# Altium integrated library ON Semi Signal Management Sensor Interfaces.IntLib: 18 symbols
Pins are listed as number, name and electrical type; pins without a type are passive.

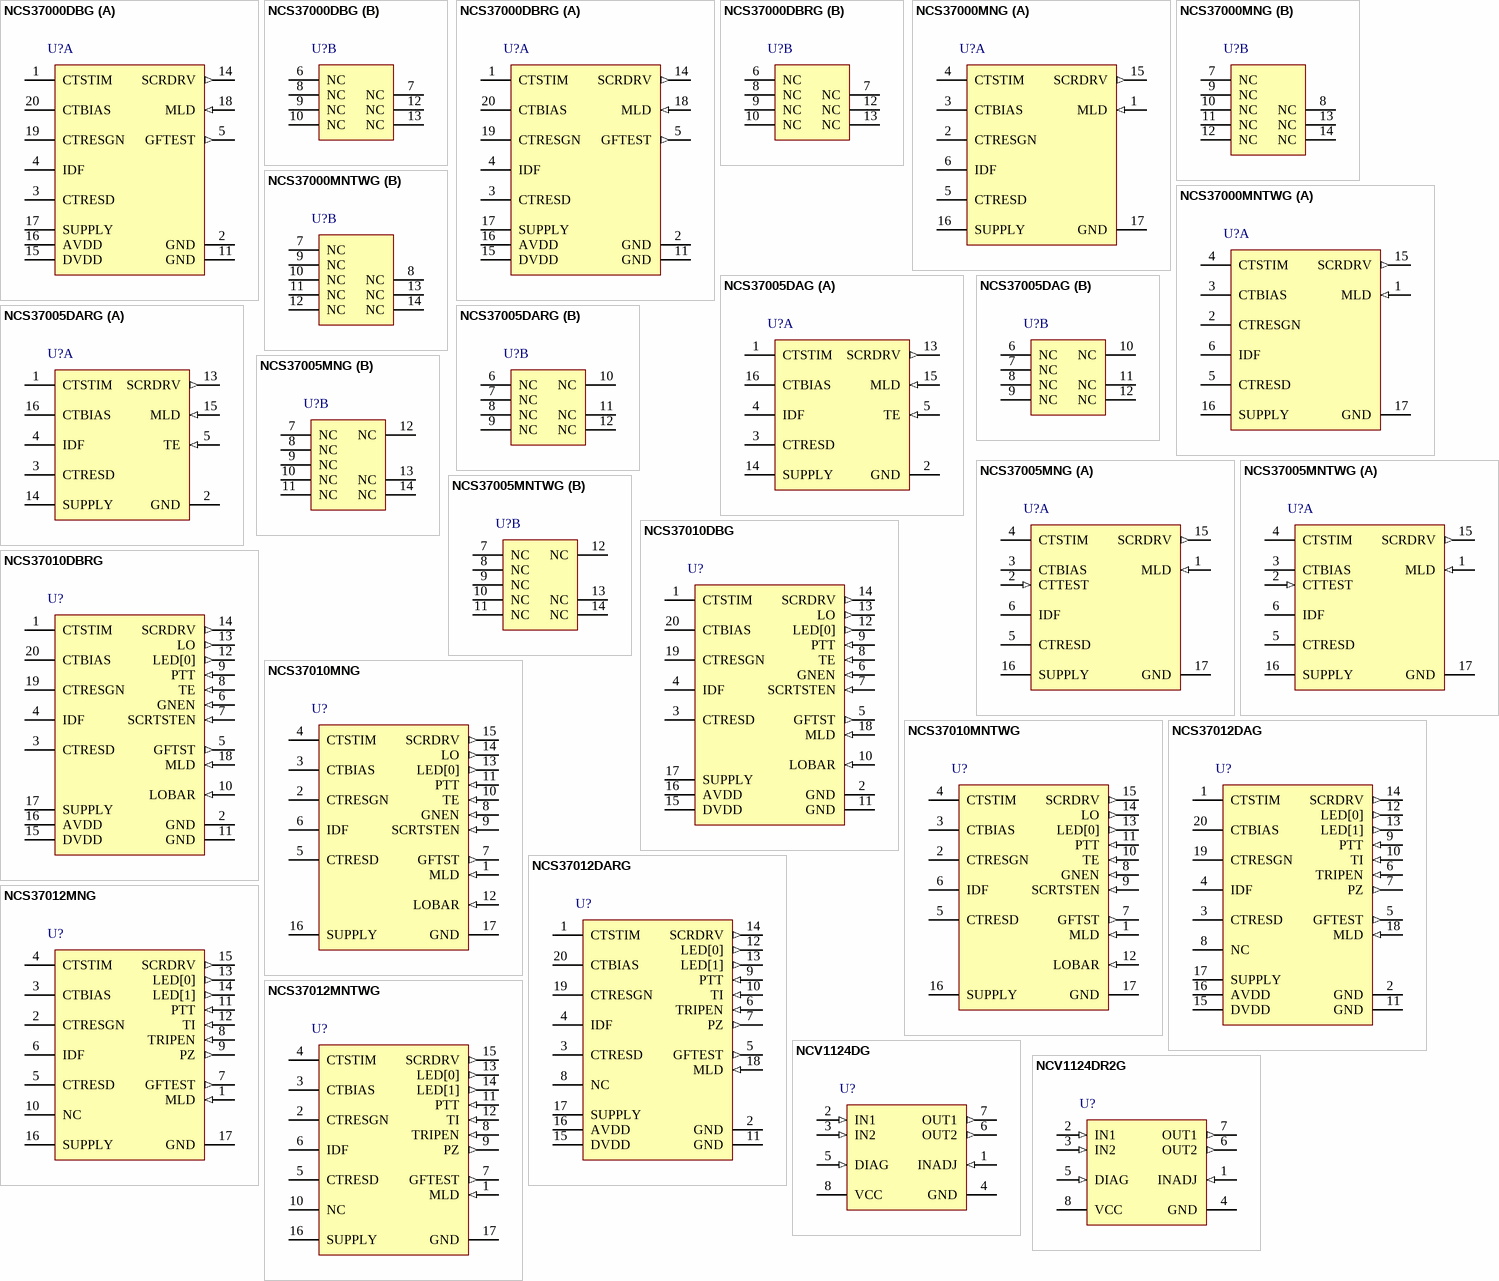
[diagram p0: symbols NCS37000DBG to NCV1124DR2G]

## NCS37000DBG
designator U?
Ground Fault Circuit Interrupter (GFCI), 6 to 12 V, -40 to 85 degC, 20-Pin TSSOP, Pb-Free, Tube; Manufacturer: On Semiconductor; PartNumber: NCS37000DBG; VCC Max (V): 12; VCC Min (V): 6; DatasheetVersion: Rev. 0; PackageVersion: Rev. C, 10/2006; PackageReference: TSSOP-20-948E-02; PackageDescription: 20-Pin Small Outline Package, Body 6.5 x 4.4 mm, Pitch 0.65 mm; Supplier 1: Digi-Key; Supplier Part Number 1: NCS37000DBG-ND; Supplier 2: Mouser; Supplier Part Number 2: 863-NCS37000DBG; Packing: Tube; RoHS: TRUE; Mounting Technology: Surface Mount; ComponentLink1Description: Manufacturer URL; ComponentLink1URL: http://www.onsemi.com/; ComponentLink2Description: Datasheet; ComponentLink2URL: http://www.onsemi.com/pub_link/Collateral/NCS37000-D.PDF; ComponentLink3Description: Package Specification; ComponentLink3URL: http://www.onsemi.com/pub_link/Collateral/948E-02.PDF
footprint ONSC-TSSOP-20-948E-02_V (SOP, 20-Leads, Body 6.6x4.5mm, Pitch 0.65mm)
part A pins: 1 CTSTIM "Differential and ground to neutral stimulus point for the current transformer", 2 GND (power) "Ground connection for IC", 3 CTRESD "Determines IV converter gain for detection threshold / matched to CT turns ratio (Differential Current)", 4 IDF "Determines corner frequency of the differential current path filter", 5 GFTEST (out) "Output to induce external differential current", 11 GND (power) "Ground connection for IC", 14 SCRDRV (out) "Used to trigger the solenoid at a fault detection", 15 DVDD (power) "Internal digital 5 V regulated supply", 16 AVDD (power) "Internal analog 5 V regulated supply", 17 SUPPLY (power) "12 V shunt regulated power supply", 18 MLD (in) "Mains Level Detect (Zero Cross) and AM slope detect (for oscillator sync/trim and AM init)", 19 CTRESGN "Determines IV converter gain for detection threshold / matched to CT turns ratio (Ground-Neutral)", 20 CTBIAS "External 2 V bias for the current transformer"
part B pins: 6 NC "Tie to Ground or leave floating", 7 NC "Float", 8 NC "Tie to Ground or leave floating", 9 NC "Tie to Ground or leave floating", 10 NC "Tie to Ground or leave floating", 12 NC "Float", 13 NC "Float"

## NCS37000DBRG
designator U?
Ground Fault Circuit Interrupter (GFCI), 6 to 12 V, -40 to 85 degC, 20-Pin TSSOP, Pb-Free, Tape and Reel; Manufacturer: On Semiconductor; PartNumber: NCS37000DBRG; VCC Max (V): 12; VCC Min (V): 6; DatasheetVersion: Rev. 0; PackageVersion: Rev. C, 10/2006; PackageReference: TSSOP-20-948E-02; PackageDescription: 20-Pin Small Outline Package, Body 6.5 x 4.4 mm, Pitch 0.65 mm; Supplier 1: Digi-Key; Supplier Part Number 1: NCS37000DBRG-ND; Supplier 2: Mouser; Supplier Part Number 2: 863-NCS37000DBRG; Packing: Tape and Reel; RoHS: TRUE; Mounting Technology: Surface Mount; ComponentLink1Description: Manufacturer URL; ComponentLink1URL: http://www.onsemi.com/; ComponentLink2Description: Datasheet; ComponentLink2URL: http://www.onsemi.com/pub_link/Collateral/NCS37000-D.PDF; ComponentLink3Description: Package Specification; ComponentLink3URL: http://www.onsemi.com/pub_link/Collateral/948E-02.PDF
footprint ONSC-TSSOP-20-948E-02_V (SOP, 20-Leads, Body 6.6x4.5mm, Pitch 0.65mm)
part A pins: 1 CTSTIM "Differential and ground to neutral stimulus point for the current transformer", 2 GND (power) "Ground connection for IC", 3 CTRESD "Determines IV converter gain for detection threshold / matched to CT turns ratio (Differential Current)", 4 IDF "Determines corner frequency of the differential current path filter", 5 GFTEST (out) "Output to induce external differential current", 11 GND (power) "Ground connection for IC", 14 SCRDRV (out) "Used to trigger the solenoid at a fault detection", 15 DVDD (power) "Internal digital 5 V regulated supply", 16 AVDD (power) "Internal analog 5 V regulated supply", 17 SUPPLY (power) "12 V shunt regulated power supply", 18 MLD (in) "Mains Level Detect (Zero Cross) and AM slope detect (for oscillator sync/trim and AM init)", 19 CTRESGN "Determines IV converter gain for detection threshold / matched to CT turns ratio (Ground-Neutral)", 20 CTBIAS "External 2 V bias for the current transformer"
part B pins: 6 NC "Tie to Ground or leave floating", 7 NC "Float", 8 NC "Tie to Ground or leave floating", 9 NC "Tie to Ground or leave floating", 10 NC "Tie to Ground or leave floating", 12 NC "Float", 13 NC "Float"

## NCS37000MNG
designator U?
Ground Fault Circuit Interrupter (GFCI), 6 to 12 V, -40 to 85 degC, 16-Pin QFN, Pb-Free, Tube; Manufacturer: On Semiconductor; PartNumber: NCS37000MNG; VCC Max (V): 12; VCC Min (V): 6; DatasheetVersion: Rev. 0; PackageVersion: Rev. F, 06/2011; PackageReference: QFN-16-485G-01; PackageDescription: 16-Pin Quad Flat No-Lead, Body 3 x 3 mm, Pitch 0.5 mm; Supplier 1: Newark; Supplier Part Number 1: 60W1710; Supplier 2: Mouser; Supplier Part Number 2: 863-NCS37000MNG; Packing: Tube; RoHS: TRUE; Mounting Technology: Surface Mount; ComponentLink1Description: Manufacturer URL; ComponentLink1URL: http://www.onsemi.com/; ComponentLink2Description: Datasheet; ComponentLink2URL: http://www.onsemi.com/pub_link/Collateral/NCS37000-D.PDF; ComponentLink3Description: Package Specification; ComponentLink3URL: http://www.onsemi.com/pub_link/Collateral/485G-01.PDF
footprint ONSC-QFN-16-485G-01_V (QFN, 16-Leads, Body 3x3mm, Pitch 0.5mm, Thermal Pad 1.84x1.84mm)
part A pins: 1 MLD (in) "Mains Level Detect (Zero Cross)", 2 CTRESGN "Determines IV converter gain for detection threshold / matched to CT turns ratio (Ground-Neutral)", 3 CTBIAS "Direct connection to the CT", 4 CTSTIM "Direct connection to the CT", 5 CTRESD "Determines IV converter gain for detection threshold / matched to CT turns ratio (Differential Current)", 6 IDF "Front end noise filter capacitor", 15 SCRDRV (out) "Used to trigger the solenoid at a fault detection", 16 SUPPLY (power) "Power supply", 17 GND (power) "QFN center slug"
part B pins: 7 NC "Tie to Ground or leave floating", 8 NC "Float", 9 NC "Tie to Ground or leave floating", 10 NC "Tie to Ground or leave floating", 11 NC "Tie to Ground or leave floating", 12 NC "Tie to Ground or leave floating", 13 NC "Float", 14 NC "Float"

## NCS37000MNTWG
designator U?
Ground Fault Circuit Interrupter (GFCI), 6 to 12 V, -40 to 85 degC, 16-Pin QFN, Pb-Free, Tape and Reel; Manufacturer: On Semiconductor; PartNumber: NCS37000MNTWG; VCC Max (V): 12; VCC Min (V): 6; DatasheetVersion: Rev. 0; PackageVersion: Rev. F, 06/2011; PackageReference: QFN-16-485G-01; PackageDescription: 16-Pin Quad Flat No-Lead, Body 3 x 3 mm, Pitch 0.5 mm; Supplier 1: Digi-Key; Supplier Part Number 1: NCS37000MNTWG-ND; Supplier 2: Mouser; Supplier Part Number 2: 863-NCS37000MNTWG; Packing: Tape and Reel; RoHS: TRUE; Mounting Technology: Surface Mount; ComponentLink1Description: Manufacturer URL; ComponentLink1URL: http://www.onsemi.com/; ComponentLink2Description: Datasheet; ComponentLink2URL: http://www.onsemi.com/pub_link/Collateral/NCS37000-D.PDF; ComponentLink3Description: Package Specification; ComponentLink3URL: http://www.onsemi.com/pub_link/Collateral/485G-01.PDF
footprint ONSC-QFN-16-485G-01_V (QFN, 16-Leads, Body 3x3mm, Pitch 0.5mm, Thermal Pad 1.84x1.84mm)
part A pins: 1 MLD (in) "Mains Level Detect (Zero Cross)", 2 CTRESGN "Determines IV converter gain for detection threshold / matched to CT turns ratio (Ground-Neutral)", 3 CTBIAS "Direct connection to the CT", 4 CTSTIM "Direct connection to the CT", 5 CTRESD "Determines IV converter gain for detection threshold / matched to CT turns ratio (Differential Current)", 6 IDF "Front end noise filter capacitor", 15 SCRDRV (out) "Used to trigger the solenoid at a fault detection", 16 SUPPLY (power) "Power supply", 17 GND (power) "QFN center slug"
part B pins: 7 NC "Tie to Ground or leave floating", 8 NC "Float", 9 NC "Tie to Ground or leave floating", 10 NC "Tie to Ground or leave floating", 11 NC "Tie to Ground or leave floating", 12 NC "Tie to Ground or leave floating", 13 NC "Float", 14 NC "Float"

## NCS37005DAG
designator U?
Ground Fault Interrupter (GFI), 6 to 19 V, -40 to 85 degC, 16-Pin TSSOP, Pb-Free, Tube; Manufacturer: On Semiconductor; PartNumber: NCS37005DAG; VCC Max (V): 19; VCC Min (V): 6; DatasheetVersion: Rev. P0; PackageVersion: Rev. B, 10/2006; PackageReference: TSSOP-16-948F-01; PackageDescription: 16-Pin Small Outline Package, Body 5 x 4.4 mm, Pitch 0.65 mm; Packing: Tube; RoHS: TRUE; Mounting Technology: Surface Mount; ComponentLink1Description: Manufacturer URL; ComponentLink1URL: http://www.onsemi.com/; ComponentLink2Description: Datasheet; ComponentLink2URL: http://www.onsemi.com/pub_link/Collateral/NCS37005D.PDF; ComponentLink3Description: Package Specification; ComponentLink3URL: http://www.onsemi.com/pub_link/Collateral/948F-01.PDF
footprint ONSC-TSSOP-16-948F-01_V (SOP, 16-Leads, Body 5.1x4.5mm, Pitch 0.65mm)
part A pins: 1 CTSTIM "Differential current measurement port for external CT", 2 GND (power) "Main ground connection for IC.", 3 CTRESD "Determines IV converter gain for detection threshold / matched to CT turns ratio (Differential Current)", 4 IDF "Front end noise filter capacitor", 5 TE (in) "Test enable", 13 SCRDRV (out) "Used to trigger the solenoid at a fault detection", 14 SUPPLY (power) "Power supply", 15 MLD (in) "Mains Level Detect (Zero Cross)", 16 CTBIAS "2 V reference that is connected to the external CT sensor"
part B pins: 6 NC "Tie to Ground or leave floating", 7 NC "Tie to Ground or leave floating", 8 NC "Tie to Ground or leave floating", 9 NC "Tie to Ground or leave floating", 10 NC "Tie to Ground or leave floating", 11 NC "Float", 12 NC "Float"

## NCS37005DARG
designator U?
Ground Fault Interrupter (GFI), 6 to 19 V, -40 to 85 degC, 16-Pin TSSOP, Pb-Free, Tape and Reel; Manufacturer: On Semiconductor; PartNumber: NCS37005DARG; VCC Max (V): 19; VCC Min (V): 6; DatasheetVersion: Rev. P0; PackageVersion: Rev. B, 10/2006; PackageReference: TSSOP-16-948F-01; PackageDescription: 16-Pin Small Outline Package, Body 5 x 4.4 mm, Pitch 0.65 mm; Packing: Tape and Reel; RoHS: TRUE; Mounting Technology: Surface Mount; ComponentLink1Description: Manufacturer URL; ComponentLink1URL: http://www.onsemi.com/; ComponentLink2Description: Datasheet; ComponentLink2URL: http://www.onsemi.com/pub_link/Collateral/NCS37005D.PDF; ComponentLink3Description: Package Specification; ComponentLink3URL: http://www.onsemi.com/pub_link/Collateral/948F-01.PDF
footprint ONSC-TSSOP-16-948F-01_V (SOP, 16-Leads, Body 5.1x4.5mm, Pitch 0.65mm)
part A pins: 1 CTSTIM "Differential current measurement port for external CT", 2 GND (power) "Main ground connection for IC.", 3 CTRESD "Determines IV converter gain for detection threshold / matched to CT turns ratio (Differential Current)", 4 IDF "Front end noise filter capacitor", 5 TE (in) "Test enable", 13 SCRDRV (out) "Used to trigger the solenoid at a fault detection", 14 SUPPLY (power) "Power supply", 15 MLD (in) "Mains Level Detect (Zero Cross)", 16 CTBIAS "2 V reference that is connected to the external CT sensor"
part B pins: 6 NC "Tie to Ground or leave floating", 7 NC "Tie to Ground or leave floating", 8 NC "Tie to Ground or leave floating", 9 NC "Tie to Ground or leave floating", 10 NC "Tie to Ground or leave floating", 11 NC "Float", 12 NC "Float"

## NCS37005MNG
designator U?
Ground Fault Interrupter (GFI), 6 to 19 V, -40 to 85 degC, 16-Pin QFN, Pb-Free, Tube; Manufacturer: On Semiconductor; PartNumber: NCS37005MNG; VCC Max (V): 19; VCC Min (V): 6; DatasheetVersion: Rev. P0; PackageVersion: Rev. F, 06/2011; PackageReference: QFN-16-485G-01; PackageDescription: 16-Pin Quad Flat No-Lead, Body 3 x 3 mm, Pitch 0.5 mm; Supplier 1: Digi-Key; Supplier Part Number 1: NCS37005MNG-ND; Supplier 2: Mouser; Supplier Part Number 2: 863-NCS37005MNG; Packing: Tube; RoHS: TRUE; Mounting Technology: Surface Mount; ComponentLink1Description: Manufacturer URL; ComponentLink1URL: http://www.onsemi.com/; ComponentLink2Description: Datasheet; ComponentLink2URL: http://www.onsemi.com/pub_link/Collateral/NCS37005D.PDF; ComponentLink3Description: Package Specification; ComponentLink3URL: http://www.onsemi.com/pub_link/Collateral/485G-01.PDF
footprint ONSC-QFN-16-485G-01_V (QFN, 16-Leads, Body 3x3mm, Pitch 0.5mm, Thermal Pad 1.84x1.84mm)
part A pins: 1 MLD (in) "Mains Level Detect (Zero Cross)", 2 CTTEST (in) "Test port (Must be tied to CTbias in functional mode).", 3 CTBIAS "2 V reference that is connected to the external CT sensor", 4 CTSTIM "Differential current measurement port for external CT", 5 CTRESD "Determines IV converter gain for detection threshold / matched to CT turns ratio (Differential Current)", 6 IDF "Front end noise filter capacitor", 15 SCRDRV (out) "Used to trigger the solenoid at a fault detection", 16 SUPPLY (power) "Power supply", 17 GND (power) "QFN center slug"
part B pins: 7 NC "Tie to Ground or leave floating", 8 NC "Tie to Ground or leave floating", 9 NC "Tie to Ground or leave floating", 10 NC "Tie to Ground or leave floating", 11 NC "Tie to Ground or leave floating", 12 NC "Tie to Ground or leave floating", 13 NC "Float", 14 NC "Float"

## NCS37005MNTWG
designator U?
Ground Fault Interrupter (GFI), 6 to 19 V, -40 to 85 degC, 16-Pin QFN, Pb-Free, Tape and Reel; Manufacturer: On Semiconductor; PartNumber: NCS37005MNTWG; VCC Max (V): 19; VCC Min (V): 6; DatasheetVersion: Rev. P0; PackageVersion: Rev. F, 06/2011; PackageReference: QFN-16-485G-01; PackageDescription: 16-Pin Quad Flat No-Lead, Body 3 x 3 mm, Pitch 0.5 mm; Supplier 1: Digi-Key; Supplier Part Number 1: NCS37005MNTWG-ND; Supplier 2: Newark; Supplier Part Number 2: 60W1712; Supplier 3: Mouser; Supplier Part Number 3: 863-NCS37005MNTWG; Packing: Tape and Reel; RoHS: TRUE; Mounting Technology: Surface Mount; ComponentLink1Description: Manufacturer URL; ComponentLink1URL: http://www.onsemi.com/; ComponentLink2Description: Datasheet; ComponentLink2URL: http://www.onsemi.com/pub_link/Collateral/NCS37005D.PDF; ComponentLink3Description: Package Specification; ComponentLink3URL: http://www.onsemi.com/pub_link/Collateral/485G-01.PDF
footprint ONSC-QFN-16-485G-01_V (QFN, 16-Leads, Body 3x3mm, Pitch 0.5mm, Thermal Pad 1.84x1.84mm)
part A pins: 1 MLD (in) "Mains Level Detect (Zero Cross)", 2 CTTEST (in) "Test port (Must be tied to CTbias in functional mode).", 3 CTBIAS "2 V reference that is connected to the external CT sensor", 4 CTSTIM "Differential current measurement port for external CT", 5 CTRESD "Determines IV converter gain for detection threshold / matched to CT turns ratio (Differential Current)", 6 IDF "Front end noise filter capacitor", 15 SCRDRV (out) "Used to trigger the solenoid at a fault detection", 16 SUPPLY (power) "Power supply", 17 GND (power) "QFN center slug"
part B pins: 7 NC "Tie to Ground or leave floating", 8 NC "Tie to Ground or leave floating", 9 NC "Tie to Ground or leave floating", 10 NC "Tie to Ground or leave floating", 11 NC "Tie to Ground or leave floating", 12 NC "Tie to Ground or leave floating", 13 NC "Float", 14 NC "Float"

## NCS37010DBG
designator U?
Self Test with Lockout Ground Fault Circuit Interrupter (GFCI), 6 to 12 V, -40 to 85 degC, 20-Pin TSSOP, Pb-Free, Tube; Manufacturer: On Semiconductor; PartNumber: NCS37010DBG; VCC Max (V): 12; VCC Min (V): 6; DatasheetVersion: Rev. 0; PackageVersion: Rev. C, 10/2006; PackageReference: TSSOP-20-948E-02; PackageDescription: 20-Pin Small Outline Package, Body 6.5 x 4.4 mm, Pitch 0.65 mm; Supplier 1: Digi-Key; Supplier Part Number 1: NCS37010DBG-ND; Supplier 2: Newark; Supplier Part Number 2: 72W2223; Supplier 3: Mouser; Supplier Part Number 3: 863-NCS37010DBG; Packing: Tube; RoHS: TRUE; Mounting Technology: Surface Mount; ComponentLink1Description: Manufacturer URL; ComponentLink1URL: http://www.onsemi.com/; ComponentLink2Description: Datasheet; ComponentLink2URL: http://www.onsemi.com/pub/Collateral/NCS37010-D.PDF; ComponentLink3Description: Package Specification; ComponentLink3URL: http://www.onsemi.com/pub_link/Collateral/948E-02.PDF
footprint ONSC-TSSOP-20-948E-02_V (SOP, 20-Leads, Body 6.6x4.5mm, Pitch 0.65mm)
pins: 1 CTSTIM "Differential and ground to neutral stimulus point for the current transformer.", 2 GND (power) "Ground connection for IC.", 3 CTRESD "Determines IV converter gain for detection threshold / matched to CT turns ratio (Differential Current).", 4 IDF "Determines corner frequency of the differential current path filter.", 5 GFTST (out) "Output to induce external differential current.", 6 GNEN (in) "Ground?Neutral fault detection enable pin.", 7 SCRTSTEN (in) "SCR/solenoid self test enable pin.", 8 TE (in) "Tie to Ground or leave floating.", 9 PTT (in) "Push to test input.", 10 LOBAR (in) "Load monitor input.", 11 GND (power) "Ground connection for IC.", 12 LED[0] (out) "LED[0] output driver.", 13 LO (out) "Lockout SCR output driver.", 14 SCRDRV (out) "Used to trigger the solenoid at a fault detection.", 15 DVDD (power) "Internal digital 5 V regulated supply.", 16 AVDD (power) "Internal analog 5 V regulated supply.", 17 SUPPLY (power) "12V shunt regulated power supply.", 18 MLD (in) "Mains Level Detect (Zero Cross) and AM slope detect (for oscillator sync/trim and AM init)", 19 CTRESGN "Determines IV converter gain for detection threshold / matched to CT turns ratio (Ground?Neutral).", 20 CTBIAS "External 2 V bias for the current transformer."

## NCS37010DBRG
designator U?
Self Test with Lockout Ground Fault Circuit Interrupter (GFCI), 6 to 12 V, -40 to 85 degC, 20-Pin TSSOP, Pb-Free, Tape and Reel; Manufacturer: On Semiconductor; PartNumber: NCS37010DBRG; VCC Max (V): 12; VCC Min (V): 6; DatasheetVersion: Rev. 0; PackageVersion: Rev. C, 10/2006; PackageReference: TSSOP-20-948E-02; PackageDescription: 20-Pin Small Outline Package, Body 6.5 x 4.4 mm, Pitch 0.65 mm; Supplier 1: Digi-Key; Supplier Part Number 1: NCS37010DBRG-ND; Supplier 2: Mouser; Supplier Part Number 2: 863-NCS37010DBRG; Packing: Tape and Reel; RoHS: TRUE; Mounting Technology: Surface Mount; ComponentLink1Description: Manufacturer URL; ComponentLink1URL: http://www.onsemi.com/; ComponentLink2Description: Datasheet; ComponentLink2URL: http://www.onsemi.com/pub/Collateral/NCS37010-D.PDF; ComponentLink3Description: Package Specification; ComponentLink3URL: http://www.onsemi.com/pub_link/Collateral/948E-02.PDF
footprint ONSC-TSSOP-20-948E-02_V (SOP, 20-Leads, Body 6.6x4.5mm, Pitch 0.65mm)
pins: 1 CTSTIM "Differential and ground to neutral stimulus point for the current transformer.", 2 GND (power) "Ground connection for IC.", 3 CTRESD "Determines IV converter gain for detection threshold / matched to CT turns ratio (Differential Current).", 4 IDF "Determines corner frequency of the differential current path filter.", 5 GFTST (out) "Output to induce external differential current.", 6 GNEN (in) "Ground?Neutral fault detection enable pin.", 7 SCRTSTEN (in) "SCR/solenoid self test enable pin.", 8 TE (in) "Tie to Ground or leave floating.", 9 PTT (in) "Push to test input.", 10 LOBAR (in) "Load monitor input.", 11 GND (power) "Ground connection for IC.", 12 LED[0] (out) "LED[0] output driver.", 13 LO (out) "Lockout SCR output driver.", 14 SCRDRV (out) "Used to trigger the solenoid at a fault detection.", 15 DVDD (power) "Internal digital 5 V regulated supply.", 16 AVDD (power) "Internal analog 5 V regulated supply.", 17 SUPPLY (power) "12V shunt regulated power supply.", 18 MLD (in) "Mains Level Detect (Zero Cross) and AM slope detect (for oscillator sync/trim and AM init)", 19 CTRESGN "Determines IV converter gain for detection threshold / matched to CT turns ratio (Ground?Neutral).", 20 CTBIAS "External 2 V bias for the current transformer."

## NCS37010MNG
designator U?
Self Test with Lockout Ground Fault Circuit Interrupter (GFCI), 6 to 12 V, -40 to 85 degC, 16-Pin QFN, Pb-Free, Tube; Manufacturer: On Semiconductor; PartNumber: NCS37010MNG; VCC Max (V): 12; VCC Min (V): 6; DatasheetVersion: Rev. 0; PackageVersion: Rev. F, 06/2011; PackageReference: QFN-16-485G-01; PackageDescription: 16-Pin Quad Flat No-Lead, Body 3 x 3 mm, Pitch 0.5 mm; Supplier 1: Digi-Key; Supplier Part Number 1: NCS37010MNGOS-ND; Supplier 2: Farnell; Supplier Part Number 2: 2382429; Supplier 3: Newark; Supplier Part Number 3: 72W2225; Supplier 4: Mouser; Supplier Part Number 4: 863-NCS37010MNG; Packing: Tube; RoHS: TRUE; Mounting Technology: Surface Mount; ComponentLink1Description: Manufacturer URL; ComponentLink1URL: http://www.onsemi.com/; ComponentLink2Description: Datasheet; ComponentLink2URL: http://www.onsemi.com/pub/Collateral/NCS37010-D.PDF; ComponentLink3Description: Package Specification; ComponentLink3URL: http://www.onsemi.com/pub_link/Collateral/485G-01.PDF
footprint ONSC-QFN-16-485G-01_V (QFN, 16-Leads, Body 3x3mm, Pitch 0.5mm, Thermal Pad 1.84x1.84mm)
pins: 1 MLD (in) "Mains Level Detect (Zero Cross)", 2 CTRESGN "Determines IV converter gain for detection threshold / matched to CT turns ratio (Ground-Neutral)", 3 CTBIAS "Direct connection to the CT", 4 CTSTIM "Direct connection to the CT", 5 CTRESD "Determines IV converter gain for detection threshold / matched to CT turns ratio (Differential Current)", 6 IDF "Front end noise filter capacitor", 7 GFTST (out) "Output to induce external differential current.", 8 GNEN (in) "Ground-Neutral fault detection enable pin.", 9 SCRTSTEN (in) "SCR/solenoid self test enable pin.", 10 TE (in) "Tie to Ground or leave floating.", 11 PTT (in) "Push to test input.", 12 LOBAR (in) "Load monitor input.", 13 LED[0] (out) "LED[0] output driver.", 14 LO (out) "Lockout SCR output driver.", 15 SCRDRV (out) "Used to trigger the solenoid at a fault detection", 16 SUPPLY (power) "Power supply", 17 GND (power) "QFN center slug"

## NCS37010MNTWG
designator U?
Self Test with Lockout Ground Fault Circuit Interrupter (GFCI), 6 to 12 V, -40 to 85 degC, 16-Pin QFN, Pb-Free, Tape and Reel; Manufacturer: On Semiconductor; PartNumber: NCS37010MNTWG; VCC Max (V): 12; VCC Min (V): 6; DatasheetVersion: Rev. 0; PackageVersion: Rev. F, 06/2011; PackageReference: QFN-16-485G-01; PackageDescription: 16-Pin Quad Flat No-Lead, Body 3 x 3 mm, Pitch 0.5 mm; Supplier 1: Mouser; Supplier Part Number 1: 863-NCS37010MNTWG; Packing: Tape and Reel; RoHS: TRUE; Mounting Technology: Surface Mount; ComponentLink1Description: Manufacturer URL; ComponentLink1URL: http://www.onsemi.com/; ComponentLink2Description: Datasheet; ComponentLink2URL: http://www.onsemi.com/pub/Collateral/NCS37010-D.PDF; ComponentLink3Description: Package Specification; ComponentLink3URL: http://www.onsemi.com/pub_link/Collateral/485G-01.PDF
footprint ONSC-QFN-16-485G-01_V (QFN, 16-Leads, Body 3x3mm, Pitch 0.5mm, Thermal Pad 1.84x1.84mm)
pins: 1 MLD (in) "Mains Level Detect (Zero Cross)", 2 CTRESGN "Determines IV converter gain for detection threshold / matched to CT turns ratio (Ground-Neutral)", 3 CTBIAS "Direct connection to the CT", 4 CTSTIM "Direct connection to the CT", 5 CTRESD "Determines IV converter gain for detection threshold / matched to CT turns ratio (Differential Current)", 6 IDF "Front end noise filter capacitor", 7 GFTST (out) "Output to induce external differential current.", 8 GNEN (in) "Ground-Neutral fault detection enable pin.", 9 SCRTSTEN (in) "SCR/solenoid self test enable pin.", 10 TE (in) "Tie to Ground or leave floating.", 11 PTT (in) "Push to test input.", 12 LOBAR (in) "Load monitor input.", 13 LED[0] (out) "LED[0] output driver.", 14 LO (out) "Lockout SCR output driver.", 15 SCRDRV (out) "Used to trigger the solenoid at a fault detection", 16 SUPPLY (power) "Power supply", 17 GND (power) "QFN center slug"

## NCS37012DAG
designator U?
Self Test Ground Fault Circuit Interrupter (GFCI), 6 to 12 V, -40 to 85 degC, 20-Pin TSSOP, Pb-Free, Tube; Manufacturer: On Semiconductor; PartNumber: NCS37012DAG; VCC Max (V): 12; VCC Min (V): 6; DatasheetVersion: Rev. P1; PackageVersion: Rev. C, 10/2006; PackageReference: TSSOP-20-948E-02; PackageDescription: 20-Pin Small Outline Package, Body 6.5 x 4.4 mm, Pitch 0.65 mm; Packing: Tube; RoHS: TRUE; Mounting Technology: Surface Mount; ComponentLink1Description: Manufacturer URL; ComponentLink1URL: http://www.onsemi.com/; ComponentLink2Description: Datasheet; ComponentLink2URL: http://www.onsemi.com/pub_link/Collateral/NCS37012-D.PDF; ComponentLink3Description: Package Specification; ComponentLink3URL: http://www.onsemi.com/pub_link/Collateral/948E-02.PDF
footprint ONSC-TSSOP-20-948E-02_V (SOP, 20-Leads, Body 6.6x4.5mm, Pitch 0.65mm)
pins: 1 CTSTIM "Differential and ground to neutral stimulus point for the current transformer", 2 GND (power) "Ground connection for IC", 3 CTRESD "Determines IV converter gain for detection threshold / matched to CT turns ratio (Differential Current)", 4 IDF "Determines corner frequency of the differential current path filter", 5 GFTEST (out) "Output to induce external differential current", 6 TRIPEN (in) "(H) Trip / (L) No Trip on Self Test Failure", 7 PZ (out) "Piezo output driver", 8 NC "Tie to Ground or leave floating", 9 PTT (in) "Push to test input", 10 TI (in) "Tip indicator input", 11 GND (power) "Ground connection for IC", 12 LED[0] (out) "LED[0] output driver", 13 LED[1] (out) "LED[1] output driver", 14 SCRDRV (out) "Used to trigger the solenoid at a fault detection", 15 DVDD (power) "Internal digital 5 V regulated supply", 16 AVDD (power) "Internal analog 5 V regulated supply", 17 SUPPLY (power) "12 V shunt regulated power supply", 18 MLD (in) "Mains Level Detect (Zero Cross) and AM slope detect (for oscillator sync/trim and AM init)", 19 CTRESGN "Determines IV converter gain for detection threshold / matched to CT turns ratio (Ground-Neutral)", 20 CTBIAS "External 2 V bias for the current transformer"

## NCS37012DARG
designator U?
Self Test Ground Fault Circuit Interrupter (GFCI), 6 to 12 V, -40 to 85 degC, 20-Pin TSSOP, Pb-Free, Tape and Reel; Manufacturer: On Semiconductor; PartNumber: NCS37012DARG; VCC Max (V): 12; VCC Min (V): 6; DatasheetVersion: Rev. P1; PackageVersion: Rev. C, 10/2006; PackageReference: TSSOP-20-948E-02; PackageDescription: 20-Pin Small Outline Package, Body 6.5 x 4.4 mm, Pitch 0.65 mm; Packing: Tape and Reel; RoHS: TRUE; Mounting Technology: Surface Mount; ComponentLink1Description: Manufacturer URL; ComponentLink1URL: http://www.onsemi.com/; ComponentLink2Description: Datasheet; ComponentLink2URL: http://www.onsemi.com/pub_link/Collateral/NCS37012-D.PDF; ComponentLink3Description: Package Specification; ComponentLink3URL: http://www.onsemi.com/pub_link/Collateral/948E-02.PDF
footprint ONSC-TSSOP-20-948E-02_V (SOP, 20-Leads, Body 6.6x4.5mm, Pitch 0.65mm)
pins: 1 CTSTIM "Differential and ground to neutral stimulus point for the current transformer", 2 GND (power) "Ground connection for IC", 3 CTRESD "Determines IV converter gain for detection threshold / matched to CT turns ratio (Differential Current)", 4 IDF "Determines corner frequency of the differential current path filter", 5 GFTEST (out) "Output to induce external differential current", 6 TRIPEN (in) "(H) Trip / (L) No Trip on Self Test Failure", 7 PZ (out) "Piezo output driver", 8 NC "Tie to Ground or leave floating", 9 PTT (in) "Push to test input", 10 TI (in) "Tip indicator input", 11 GND (power) "Ground connection for IC", 12 LED[0] (out) "LED[0] output driver", 13 LED[1] (out) "LED[1] output driver", 14 SCRDRV (out) "Used to trigger the solenoid at a fault detection", 15 DVDD (power) "Internal digital 5 V regulated supply", 16 AVDD (power) "Internal analog 5 V regulated supply", 17 SUPPLY (power) "12 V shunt regulated power supply", 18 MLD (in) "Mains Level Detect (Zero Cross) and AM slope detect (for oscillator sync/trim and AM init)", 19 CTRESGN "Determines IV converter gain for detection threshold / matched to CT turns ratio (Ground-Neutral)", 20 CTBIAS "External 2 V bias for the current transformer"

## NCS37012MNG
designator U?
Self Test Ground Fault Circuit Interrupter (GFCI), 6 to 12 V, -40 to 85 degC, 16-Pin QFN, Pb-Free, Tube; Manufacturer: On Semiconductor; PartNumber: NCS37012MNG; VCC Max (V): 12; VCC Min (V): 6; DatasheetVersion: Rev. P1; PackageVersion: Rev. F, 06/2011; PackageReference: QFN-16-485G-01; PackageDescription: 16-Pin Quad Flat No-Lead, Body 3 x 3 mm, Pitch 0.5 mm; Supplier 1: Farnell; Supplier Part Number 1: 2382432; Supplier 2: Newark; Supplier Part Number 2: 72W2229; Supplier 3: Mouser; Supplier Part Number 3: 863-NCS37012MNG; Packing: Tube; RoHS: TRUE; Mounting Technology: Surface Mount; ComponentLink1Description: Manufacturer URL; ComponentLink1URL: http://www.onsemi.com/; ComponentLink2Description: Datasheet; ComponentLink2URL: http://www.onsemi.com/pub_link/Collateral/NCS37012-D.PDF; ComponentLink3Description: Package Specification; ComponentLink3URL: http://www.onsemi.com/pub_link/Collateral/485G-01.PDF
footprint ONSC-QFN-16-485G-01_V (QFN, 16-Leads, Body 3x3mm, Pitch 0.5mm, Thermal Pad 1.84x1.84mm)
pins: 1 MLD (in) "Mains Level Detect (Zero Cross)", 2 CTRESGN "Determines IV converter gain for detection threshold / matched to CT turns ratio (Ground-Neutral)", 3 CTBIAS "Direct connection to the CT", 4 CTSTIM "Direct connection to the CT", 5 CTRESD "Determines IV converter gain for detection threshold / matched to CT turns ratio (Differential Current)", 6 IDF "Front end noise filter capacitor", 7 GFTEST (out) "Output to induce external differential current", 8 TRIPEN (in) "(H) Trip / (L) No Trip on Self Test Failure", 9 PZ (out) "Piezo output driver", 10 NC "Tie to Ground or leave floating", 11 PTT (in) "Push to test input", 12 TI (in) "Tip indicator input", 13 LED[0] (out) "LED[0] output driver", 14 LED[1] (out) "LED[1] output driver", 15 SCRDRV (out) "Used to trigger the solenoid at a fault detection", 16 SUPPLY (power) "Power supply", 17 GND (power) "QFN center slug"

## NCS37012MNTWG
designator U?
Self Test Ground Fault Circuit Interrupter (GFCI), 6 to 12 V, -40 to 85 degC, 16-Pin QFN, Pb-Free, Tape and Reel; Manufacturer: On Semiconductor; PartNumber: NCS37012MNTWG; VCC Max (V): 12; VCC Min (V): 6; DatasheetVersion: Rev. P1; PackageVersion: Rev. F, 06/2011; PackageReference: QFN-16-485G-01; PackageDescription: 16-Pin Quad Flat No-Lead, Body 3 x 3 mm, Pitch 0.5 mm; Supplier 1: Digi-Key; Supplier Part Number 1: NCS37012MNTWGOSTR-ND; Supplier 2: Digi-Key; Supplier Part Number 2: NCS37012MNTWGOSCT-ND; Supplier 3: Digi-Key; Supplier Part Number 3: NCS37012MNTWGOSDKR-ND; Supplier 4: Mouser; Supplier Part Number 4: 863-NCS37012MNTWG; Packing: Tape and Reel; RoHS: TRUE; Mounting Technology: Surface Mount; ComponentLink1Description: Manufacturer URL; ComponentLink1URL: http://www.onsemi.com/; ComponentLink2Description: Datasheet; ComponentLink2URL: http://www.onsemi.com/pub_link/Collateral/NCS37012-D.PDF; ComponentLink3Description: Package Specification; ComponentLink3URL: http://www.onsemi.com/pub_link/Collateral/485G-01.PDF
footprint ONSC-QFN-16-485G-01_V (QFN, 16-Leads, Body 3x3mm, Pitch 0.5mm, Thermal Pad 1.84x1.84mm)
pins: 1 MLD (in) "Mains Level Detect (Zero Cross)", 2 CTRESGN "Determines IV converter gain for detection threshold / matched to CT turns ratio (Ground-Neutral)", 3 CTBIAS "Direct connection to the CT", 4 CTSTIM "Direct connection to the CT", 5 CTRESD "Determines IV converter gain for detection threshold / matched to CT turns ratio (Differential Current)", 6 IDF "Front end noise filter capacitor", 7 GFTEST (out) "Output to induce external differential current", 8 TRIPEN (in) "(H) Trip / (L) No Trip on Self Test Failure", 9 PZ (out) "Piezo output driver", 10 NC "Tie to Ground or leave floating", 11 PTT (in) "Push to test input", 12 TI (in) "Tip indicator input", 13 LED[0] (out) "LED[0] output driver", 14 LED[1] (out) "LED[1] output driver", 15 SCRDRV (out) "Used to trigger the solenoid at a fault detection", 16 SUPPLY (power) "Power supply", 17 GND (power) "QFN center slug"

## NCV1124DG
designator U?
Dual Variable-Reluctance Sensor Interface IC, 4.5 to 5.5 V, -40 to 125 degC, 8-Pin SOIC, Pb-Free, Tube; Manufacturer: On Semiconductor; PartNumber: NCV1124DG; VCC Max (V): 5.5; VCC Min (V): 4.5; DatasheetVersion: Rev. 0; PackageVersion: Rev. AK, 02/2011; PackageReference: SOIC-8NB-8-751-07; PackageDescription: 8-Pin Small Outline Integrated Circuit, Body 4.9 x 3.9 mm, Pitch 1.27 mm; Supplier 1: Digi-Key; Supplier Part Number 1: NCV1124DGOS-ND; Supplier 2: Newark; Supplier Part Number 2: 02M9852; Supplier 3: Mouser; Supplier Part Number 3: 863-NCV1124DG; Packing: Tube; RoHS: TRUE; Mounting Technology: Surface Mount; ComponentLink1Description: Manufacturer URL; ComponentLink1URL: http://www.onsemi.com/; ComponentLink2Description: Datasheet; ComponentLink2URL: http://www.onsemi.com/pub_link/Collateral/NCV1124%20DATA%20SHEET.PDF; ComponentLink3Description: Package Specification; ComponentLink3URL: http://www.onsemi.com/pub_link/Collateral/751-07.PDF
footprint ONSC-SOIC-8NB-8-751-07_V (SOIC, 8-Leads, Body 5x4mm, Pitch 1.27mm)
pins: 1 INADJ (in) "External resistor to ground that sets the trip levels of both channels. Functions for both diagnostic and normal mode", 2 IN1 (in) "Input to channel 1", 3 IN2 (in) "Input to channel 2", 4 GND (power) "Ground", 5 DIAG (in) "Diagnostic mode switch. Normal mode is low", 6 OUT2 (out) "Output of channel 2", 7 OUT1 (out) "Output of channel 1", 8 VCC (power) "Positive 5.0 volt supply input"

## NCV1124DR2G
designator U?
Dual Variable-Reluctance Sensor Interface IC, 4.5 to 5.5 V, -40 to 125 degC, 8-Pin SOIC, Pb-Free, Tape and Reel; Manufacturer: On Semiconductor; PartNumber: NCV1124DR2G; VCC Max (V): 5.5; VCC Min (V): 4.5; DatasheetVersion: Rev. 0; PackageVersion: Rev. AK, 02/2011; PackageReference: SOIC-8NB-8-751-07; PackageDescription: 8-Pin Small Outline Integrated Circuit, Body 4.9 x 3.9 mm, Pitch 1.27 mm; Supplier 1: Digi-Key; Supplier Part Number 1: NCV1124DR2GOSTR-ND; Supplier 2: Digi-Key; Supplier Part Number 2: NCV1124DR2GOSCT-ND; Supplier 3: Digi-Key; Supplier Part Number 3: NCV1124DR2GOSDKR-ND; Supplier 4: Mouser; Supplier Part Number 4: 863-NCV1124DR2G; Packing: Tape and Reel; RoHS: TRUE; Mounting Technology: Surface Mount; ComponentLink1Description: Manufacturer URL; ComponentLink1URL: http://www.onsemi.com/; ComponentLink2Description: Datasheet; ComponentLink2URL: http://www.onsemi.com/pub_link/Collateral/NCV1124%20DATA%20SHEET.PDF; ComponentLink3Description: Package Specification; ComponentLink3URL: http://www.onsemi.com/pub_link/Collateral/751-07.PDF
footprint ONSC-SOIC-8NB-8-751-07_V (SOIC, 8-Leads, Body 5x4mm, Pitch 1.27mm)
pins: 1 INADJ (in) "External resistor to ground that sets the trip levels of both channels. Functions for both diagnostic and normal mode", 2 IN1 (in) "Input to channel 1", 3 IN2 (in) "Input to channel 2", 4 GND (power) "Ground", 5 DIAG (in) "Diagnostic mode switch. Normal mode is low", 6 OUT2 (out) "Output of channel 2", 7 OUT1 (out) "Output of channel 1", 8 VCC (power) "Positive 5.0 volt supply input"